# Altium footprint library Lumos_Probe.PcbLib: 4 footprints
Each footprint in its own frame and in the unit in brackets; x right, y up, seen from the top. Pads: shape width x height; smd on the part's side, far side on the other; paste and mask are expansions set on the pad; w line width, h text height; cw(c..) or ccw(c..) is an arc to the next point about the centre after c.
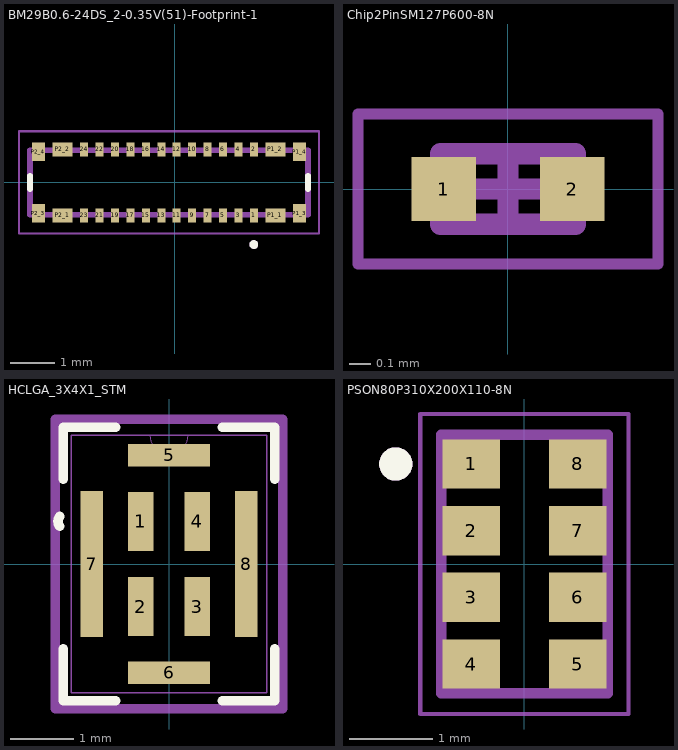
[diagram p0: the footprints below, top view; thin cyan lines are the x and y axes]

## BM29B0.6-24DS_2-0.35V(51)-Footprint-1 [mm]
pads (32):
  rect 0.18x0.32 smd mask+0.038: 1(1.798,-0.75) 2(1.798,0.75) 3(1.448,-0.75) 4(1.448,0.75) 5(1.098,-0.75) 6(1.098,0.75) 7(0.748,-0.75) 8(0.748,0.75) 9(0.398,-0.75) 10(0.398,0.75) 11(0.048,-0.75) 12(0.048,0.75) 13(-0.302,-0.75) 14(-0.302,0.75) 15(-0.652,-0.75) 16(-0.652,0.75) 17(-1.002,-0.75) 18(-1.002,0.75) 19(-1.352,-0.75) 20(-1.352,0.75) 21(-1.702,-0.75) 22(-1.702,0.75) 23(-2.052,-0.75) 24(-2.052,0.75)
  rect 0.46x0.32 smd mask+0.038: P1_1(2.288,-0.75) P1_2(2.288,0.75) P2_1(-2.542,-0.75) P2_2(-2.542,0.75)
  rect 0.3x0.42 smd mask+0.051: P1_3(2.838,-0.7) P1_4(2.838,0.7) P2_3(-3.092,-0.7) P2_4(-3.092,0.7)
Top Overlay:
  circle w0.1: c1.798,-1.41 r0.05
  lines w0.127: -3.282,-0.15 -3.282,0.15 ; 3.028,-0.15 3.028,0.15
Top Assembly:
  circle w0.1: c1.798,-1.41 r0.05
  lines w0.127: -3.282,-0.73 3.028,-0.73 3.028,0.73 -3.282,0.73 -3.282,-0.73
Top Courtyard:
  lines w0.05: -3.532,-1.16 -3.532,1.16 3.278,1.16 3.278,-1.16 -3.532,-1.16
Top Designator:
  text ".Designator" at -1.452,0.017 h0.25
3D body "step_temp.STEP": height 0.57, standoff -0.03, extent -3.28,-0.75 3.03,0.75

## Chip2PinSM127P600-8N [mm]
pads (2):
  rect 0.3x0.3 smd: 1(-0.3,0) 2(0.3,0)
Top Assembly:
  lines w0.1: -0.315,-0.165 -0.315,0.165 0.315,0.165 0.315,-0.165 -0.315,-0.165
Top Courtyard:
  lines w0.05: -0.7,-0.35 -0.7,0.35 0.7,0.35 0.7,-0.35 -0.7,-0.35
  lines w0.1: -0.165,0 0.165,0 ; 0,-0.165 0,0.165
Top Designator:
  text ".Designator" at -1.25,-0.083 h0.25
3D body "Chip2PinSM127P600-8N.step": height 0.26, standoff 0, extent -0.315,-0.165 0.315,0.165

## HCLGA_3X4X1_STM [mil]
pads (8):
  rect 16x37 smd paste-8 mask+2: 1(-17.75,26.62) 2(-17.75,-26.62) 3(17.75,-26.62) 4(17.75,26.62)
  rect 51x14 smd paste-7 mask+2: 5(0,68) 6(0,-68)
  rect 14x91 smd paste-45.5 mask+2: 7(-48.25,0) 8(48.25,0)
Top Layer:
  region: 0,-7
  region: 0,7
Top Overlay:
  lines w6: -68.35,23.59 cw(c-64.38,26.62) -68.35,29.66 ; -66,-52.99 -66,-85.5 -33.33,-85.5 ; -66,52.99 -66,85.5 -33.33,85.5 ; 33.33,-85.5 66,-85.5 66,-52.99 ; 33.33,85.5 66,85.5 66,52.99
Top Solder:
  region: 0,-7
  region: 0,7
Top Assembly:
  lines w0: -12,80.5 ccw(c0,80.5) 12,80.5
  lines w1: -61,-80.5 -61,80.5 61,80.5 61,-80.5 -61,-80.5
Top Courtyard:
  lines w6: -71,-90.5 -71,-55.12 -71,55.12 -71,90.5 71,90.5 71,55.12 71,-55.12 71,-90.5 -71,-90.5
Top Designator:
  text ".Designator" at 299.9,19.99 h60
3D body "IMP34DT05TR.STEP": height 43.31, standoff 0, extent -59.06,-78.74 59.06,78.74

## PSON80P310X200X110-8N [mm]
pads (8):
  rect 0.69x0.59 smd: 1(-0.64,1.2) 2(-0.64,0.4) 3(-0.64,-0.4) 4(-0.64,-1.2) 5(0.64,-1.2) 6(0.64,-0.4) 7(0.64,0.4) 8(0.64,1.2)
Top Overlay:
  circle w0.2: c-1.545,1.2 r0.1
Top Assembly:
  circle w0.2: c-1.545,1.2 r0.1
  lines w0.127: -1,-1.55 -1,1.55 1,1.55 1,-1.55 -1,-1.55
Top Courtyard:
  lines w0.05: -1.25,-1.8 -1.25,1.8 1.25,1.8 1.25,-1.8 -1.25,-1.8
Top Designator:
  text ".Designator" at -6.731,-0.127 h1.52
3D body "step_temp.STEP": height 1.1, standoff 0, extent -1,-1.55 1,1.55